# EAGLE library part TNY25XX (library te)
1.5 A, Step-Up/Down/ Inverting Switching Regulators EP Flag must be tied to GND Pin 4 on PCB !!! - SC _ Switch Collector - SE _ Switch Emitor - TC _ Timing Capacitor - GND _ GROUND - IPS _ Current peak sense - VCC _ Supply voltage (+) - CII _ Comparator Inverting Input Features > Operation to 40 V Input > Low Standby Current > Output Switch Current to 1.5 A > Output Voltage Adjustable > Frequency Operation of 150 kHz > Precision 1.5% Reference > New Features: Internal Thermal Shutdown with Hysteresis New Features: Cycle?by?Cycle Current Limiting > Pb?Free Packages are Available Applications > Step?Down, Step?Up and Inverting supply applications > High Power LED Lighting > Battery Chargers
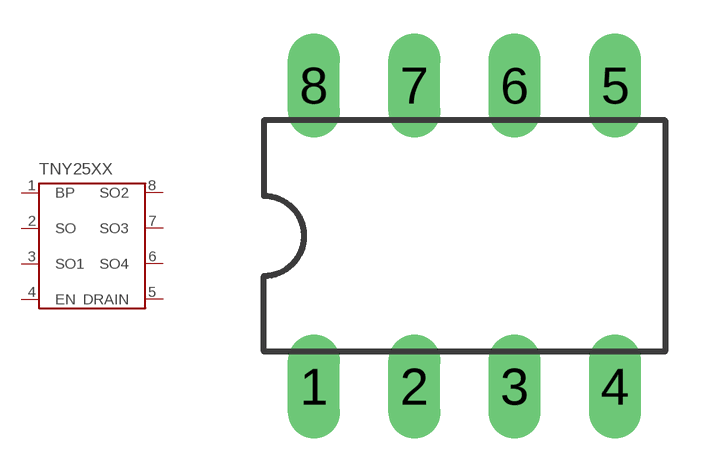
[diagram p2: symbol with the pads of DIL08; footprint DIL08]

Designator prefix IO

## TNY25XX  [DIL08]
1  BP
2  SO
3  SO1
4  EN
5  DRAIN
6  SO4
7  SO3
8  SO2

## Footprint DIL08 (pad centres in mm)
Dual In Line Package
drill 0.813 long: 1 -3.81,-3.81; 2 -1.27,-3.81; 3 1.27,-3.81; 4 3.81,-3.81; 5 3.81,3.81; 6 1.27,3.81; 7 -1.27,3.81; 8 -3.81,3.81